# Altium footprint library 25TLV470M10X10.5.PcbLib: 1 footprints
Each footprint in its own frame and in the unit in brackets; x right, y up, seen from the top. Pads: shape width x height; smd on the part's side, far side on the other; paste and mask are expansions set on the pad; w line width, h text height; cw(c..) or ccw(c..) is an arc to the next point about the centre after c.
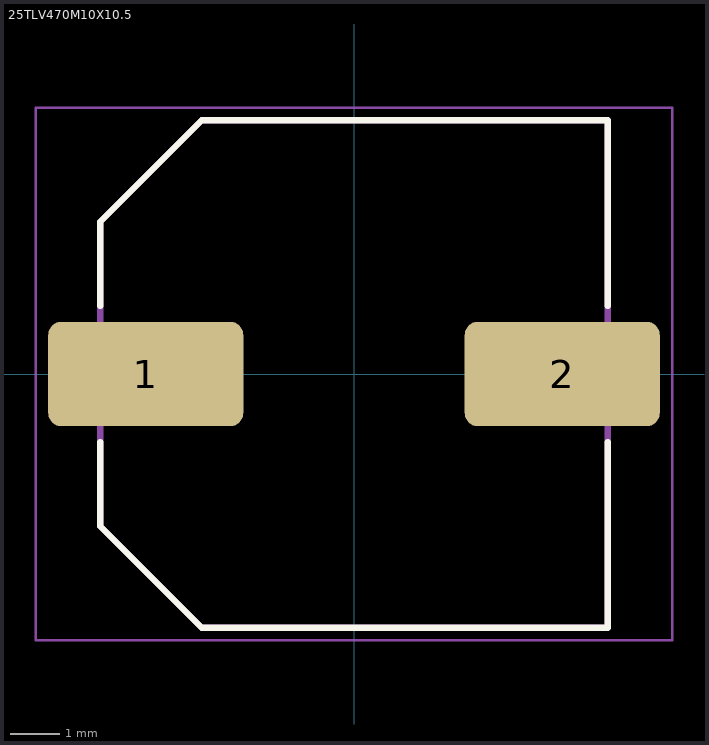
[diagram p0: the footprint, top view; thin cyan lines are the x and y axes]

## 25TLV470M10X10.5 [mm]
pads (2):
  rrect25% 3.96x2.12 smd: 1(-4.225,0) 2(4.225,0)
Top Overlay:
  lines w0.127: -5.15,-1.38 -5.15,-3.09 -3.09,-5.15 5.15,-5.15 5.15,-1.38 ; -5.15,1.38 -5.15,3.09 -3.09,5.15 5.15,5.15 5.15,1.38
Mechanical 13:
  lines w0.127: -5.15,-3.09 -3.09,-5.15 5.15,-5.15 5.15,5.15 -3.09,5.15 -5.15,3.09 -5.15,-3.09
Mechanical 15:
  lines w0.05: -6.455,-5.4 6.455,-5.4 6.455,5.4 -6.455,5.4 -6.455,-5.4
3D body "step_temp.STEP": height 10.5, standoff 0, extent -5.65,-5.15 5.65,5.15